# EAGLE library part ESD_USB_IP4234CZ6 (library Bauelemente)
NXP IP4234CZ6 Single USB 2.0 ESD protection to IEC 61000-4-2 level 4
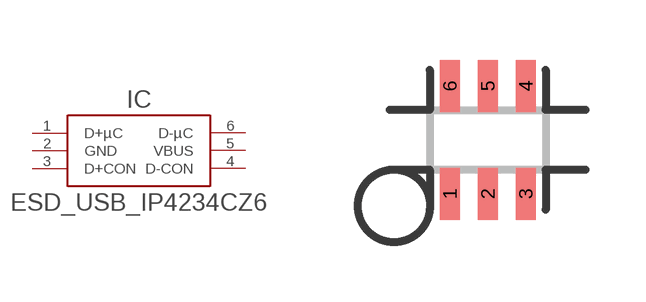
[diagram p1: symbol with the pads of ESD_USB_IP4234CZ6; footprint ESD_USB_IP4234CZ6]

Designator prefix IC

## ESD_USB_IP4234CZ6  [ESD_USB_IP4234CZ6]
1  D+µC
2  GND  pwr
3  D+CON
4  D-CON
5  VBUS  pwr
6  D-µC

## Footprint ESD_USB_IP4234CZ6 (pad centres in mm)
smd 0.5 x 1.3: 1 -0.95,-1.35; 2 0,-1.35; 3 0.95,-1.35; 4 0.95,1.35; 5 0,1.35; 6 -0.95,1.35